# Altium schematic symbol library LL103A.SchLib: 2 symbols
Pins are listed as number, name and electrical type; pins without a type are passive.

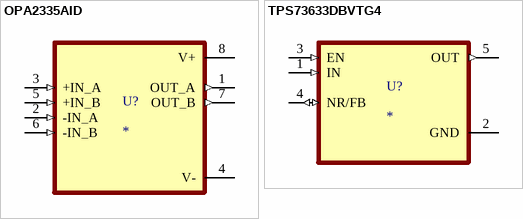
[diagram p0: symbols OPA2335AID to TPS73633DBVTG4]

## OPA2335AID
designator U?
MF: {'manufacturer': u'Texas Instruments'}; MP: OPA2335AID; Package: None; Price: None; Value: *; Availability: Unavailable
footprint SOIC127P599X175-8N
pins: 1 OUT_A (out), 2 -IN_A (in), 3 +IN_A (in), 4 V- (power), 5 +IN_B (in), 6 -IN_B (in), 7 OUT_B (out), 8 V+ (power)

## TPS73633DBVTG4
designator U?
MF: {'manufacturer': u'Texas Instruments'}; MP: TPS73633DBVTG4; Package: None; Price: None; Value: *; Availability: Unavailable
footprint SOT95P280X145-5N
pins: 1 IN (in), 2 GND (power), 3 EN (in), 4 NR/FB (io), 5 OUT (out)